# Altium schematic symbol library zad_space.SchLib: 3 symbols
Pins are listed as number, name and electrical type; pins without a type are passive.

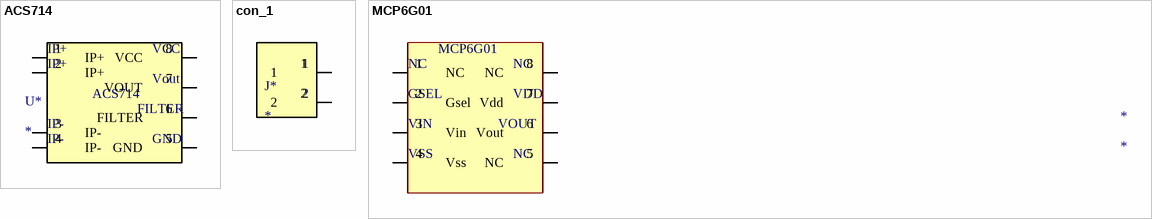
[diagram p0: symbols ACS714 to MCP6G01]

## ACS714
designator U*
footprint SOIC127P600X175-8N
pins: 1 IP+, 2 IP+, 3 IP-, 4 IP-, 5 GND, 6 FILTER, 7 VOUT, 8 VCC
text: Vout

## con_1
designator J*
footprint con_1
pins: 1, 2

## MCP6G01
designator *
footprint SOIC127P600X175-8N
pins: 1 NC, 2 Gsel, 3 Vin, 4 Vss, 5 NC, 6 Vout, 7 Vdd, 8 NC
text: GSEL; VDD; VIN; VOUT; VSS